# EAGLE library part AD8552_TSSOP (library My Library)
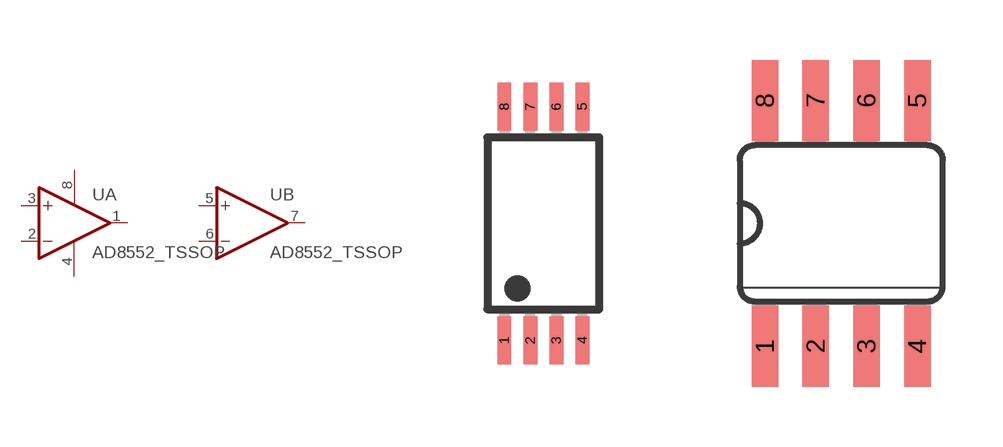
[diagram p23: symbol with the pads of TSSOP-8; footprints TSSOP-8, SO08]

Designator prefix U; gates A=OP_AMP+- B=OP_AMP

## AD8552_TSSOP  [TSSOP-8]
1  A:OUT  out
2  A:-IN  in
3  A:+IN  in
4  A:V-  pwr
5  B:+IN  in
6  B:-IN  in
7  B:OUT  out
8  A:V+  pwr

## AD8552_TSSOPSOIC8  [SO08]
Pads as for TSSOP-8

## Footprint TSSOP-8 (pad centres in mm)
smd 0.35 x 1.2: 1 -0.975,-2.925; 2 -0.325,-2.925; 3 0.325,-2.925; 4 0.975,-2.925; 5 0.975,2.925; 6 0.325,2.925; 7 -0.325,2.925; 8 -0.975,2.925

## Footprint SO08 (pad centres in mm)
Small Outline Package SO-8, CASE 751
smd 0.66 x 2.032: 1 -1.905,-3.073; 2 -0.635,-3.073; 3 0.635,-3.073; 4 1.905,-3.073; 5 1.905,3.073; 6 0.635,3.073; 7 -0.635,3.073; 8 -1.905,3.073